# Altium schematic symbol library Schlib1.SchLib: 1 symbol
Pins are listed as number, name and electrical type; pins without a type are passive.

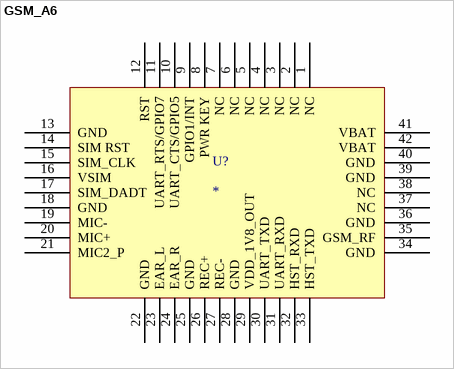
[diagram p0: symbol GSM_A6]

## GSM_A6
designator U?
footprint PCBA6
pins: 1 NC, 2 NC, 3 NC, 4 NC, 5 NC, 6 NC, 7 NC, 8 PWR KEY, 9 GPIO1/INT, 10 UART_CTS/GPIO5, 11 UART_RTS/GPIO7, 12 RST, 13 GND, 14 SIM RST, 15 SIM_CLK, 16 VSIM, 17 SIM_DADT, 18 GND, 19 MIC-, 20 MIC+, 21 MIC2_P, 22 GND, 23 EAR_L, 24 EAR_R, 25 GND, 26 REC+, 27 REC-, 28 GND, 29 VDD_1V8_OUT , 30 UART_TXD, 31 UART_RXD, 32 HST_RXD, 33 HST_TXD, 34 GND, 35 GSM_RF, 36 GND, 37 NC, 38 NC, 39 GND, 40 GND, 41 VBAT, 42 VBAT